# Altium schematic symbol library AMC1311DWVR.SchLib: 1 symbol
Pins are listed as number, name and electrical type; pins without a type are passive.

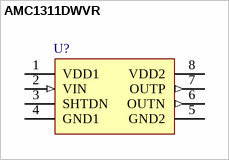
[diagram p0: symbol AMC1311DWVR]

## AMC1311DWVR
designator U?
Precision Reinforced Isolated Amplifier With High CMTI for Current Sensing
pins: 1 VDD1, 2 VIN (in), 3 SHTDN, 4 GND1, 5 GND2, 6 OUTN (out), 7 OUTP (out), 8 VDD2